# Altium footprint library DF23C-10DS-0.5V(51).PcbLib: 1 footprints
Each footprint in its own frame and in the unit in brackets; x right, y up, seen from the top. Pads: shape width x height; smd on the part's side, far side on the other; paste and mask are expansions set on the pad; w line width, h text height; cw(c..) or ccw(c..) is an arc to the next point about the centre after c.
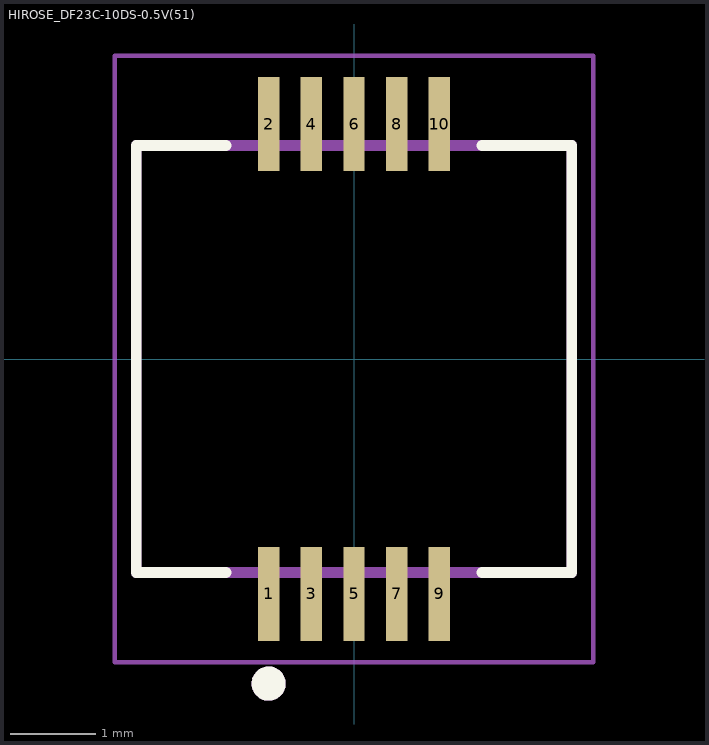
[diagram p0: the footprint, top view; thin cyan lines are the x and y axes]

## HIROSE_DF23C-10DS-0.5V(51) [mm]
pads (10):
  rect 0.25x1.1 smd: 1(-1,-2.75) 2(-1,2.75) 3(-0.5,-2.75) 4(-0.5,2.75) 5(0,-2.75) 6(0,2.75) 7(0.5,-2.75) 8(0.5,2.75) 9(1,-2.75) 10(1,2.75)
Top Overlay:
  circle w0.2: c-1,-3.8 r0.1
  lines w0.127: -1.5,-2.5 -2.55,-2.5 -2.55,2.5 -1.5,2.5 ; 1.5,-2.5 2.55,-2.5 2.55,2.5 1.5,2.5
Mechanical 13:
  circle w0.2: c-1,-3.8 r0.1
  lines w0.127: -2.55,-2.5 2.55,-2.5 2.55,2.5 -2.55,2.5 -2.55,-2.5
Mechanical 15:
  lines w0.05: -2.8,-3.55 -2.8,3.55 2.8,3.55 2.8,-3.55 -2.8,-3.55
3D body "step_temp.STEP": height 1.07, standoff -0.38, extent -2.55,-2.952 2.55,3.048